# EAGLE library part SIP6XB (library rezistory)
Rezistorová sít
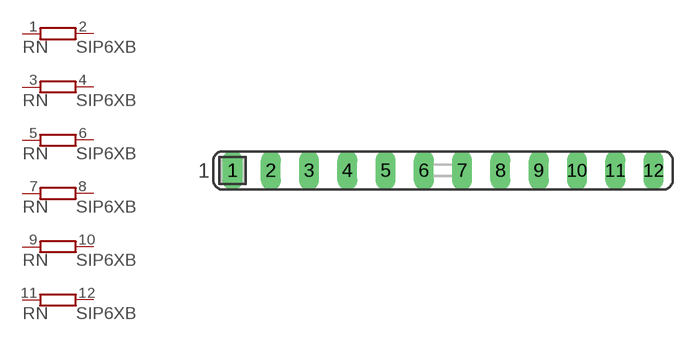
[diagram p3: symbol with the pads of SIL12; footprint SIL12]

Designator prefix RN; gates G$1=RPV G$2=RPV G$3=RPV G$4=RPV G$5=RPV G$6=RPV

## SIP6XB  [SIL12]
1  G$1:1  pas
2  G$1:2  pas
3  G$2:1  pas
4  G$2:2  pas
5  G$3:1  pas
6  G$3:2  pas
7  G$4:1  pas
8  G$4:2  pas
9  G$5:1  pas
10  G$5:2  pas
11  G$6:1  pas
12  G$6:2  pas

## Footprint SIL12 (pad centres in mm)
drill 0.813 long: 1 -13.97,0; 2 -11.43,0; 3 -8.89,0; 4 -6.35,0; 5 -3.81,0; 6 -1.27,0; 7 1.27,0; 8 3.81,0; 9 6.35,0; 10 8.89,0; 11 11.43,0; 12 13.97,0